# Altium schematic symbol library MyLibs_Transistors.SchLib: 7 symbols
Pins are listed as number, name and electrical type; pins without a type are passive.

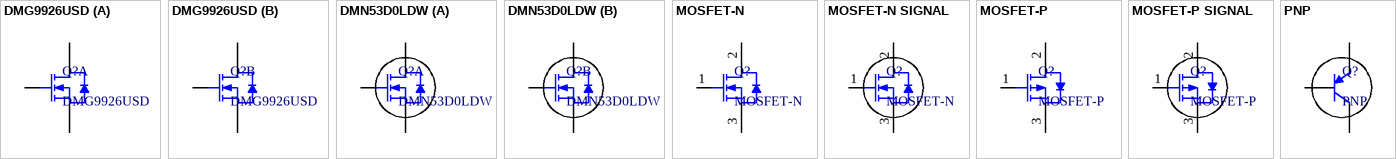
[diagram p0: symbols DMG9926USD to PNP]

## DMG9926USD
designator Q?
Dual MOSFET N-Ch 20V 8A SO-8
part A pins: 1 S1, 2 G1, 7 D1, 8 D1
part B pins: 3 S2, 4 G2, 5 D2, 6 D2

## DMN53D0LDW
designator Q?
Dual MOSFET N-Ch 50V 0.36A SOT363
footprint DIODES SOT-363 (SOT363, 6-Leads, Body 2.00x2.10mm, Pitch 0.65mm, IPC Medium Density)
part A pins: 1 S1, 2 G1, 6 D1
part B pins: 3 D2, 4 S2, 5 G2

## MOSFET-N
designator Q?
MOSFET-N Transistor
pins: 1 G, 2 D, 3 S

## MOSFET-N SIGNAL
designator Q?, comment MOSFET-N
MOSFET-N Signal Transistor
pins: 1 G, 2 D, 3 S

## MOSFET-P
designator Q?
MOSFET-P Transistor
pins: 1 G, 2 D, 3 S

## MOSFET-P SIGNAL
designator Q?, comment MOSFET-P
MOSFET-P Signal Transistor
pins: 1 G, 2 D, 3 S

## PNP
designator Q?
PNP Signal Transistor
pins: 1 B, 2 C, 3 E